# EAGLE library part AT42QT1012 (library SparkFun-Sensors)
Atmel AT42QT1010 1-Channel Capacitive Touch Sensor The AT42QT1010 is a dedicated, single-button capacitive sense chip. The chip handles monitoring a conductive area for touch. As long as a touch (e.g. from a finger) is detected, the AT42QT1010 keeps the output line high. Otherwise, the line is kept low. Datasheet <http://cdn.sparkfun.com/datasheets/Sensors/Capacitive/AT42QT1010_Datasheet.pdf> SparkFun Products SparkFun Capacitive Touch Breakout - AT42QT1010 <https://www.sparkfun.com/products/12041> (SEN-12041)
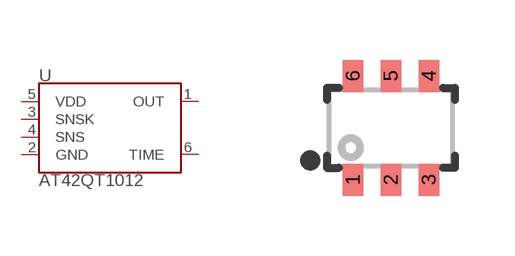
[diagram p8: symbol with the pads of SOT23-6; footprint SOT23-6]

Designator prefix U

## AT42QT1012-TSHR (PROD_ID: IC-11778)  [SOT23-6]
1  OUT
2  GND
3  SNSK
4  SNS
5  VDD
6  TIME

## Footprint SOT23-6 (pad centres in mm)
6-Pin SOT23-6 Datasheet <http://cdn.sparkfun.com/datasheets/Sensors/Capacitive/AT42QT1010_Datasheet.pdf> Specifications: Pin Count: 6 Area: 2.6 x 2.9 x 1.45 mm Pitch: 0.95 mm Devices Using: AT42QT1012
smd 0.51 x 0.8: 1 -0.95,-1.3; 2 0,-1.3; 3 0.95,-1.3; 4 0.95,1.3; 5 0,1.3; 6 -0.95,1.3